# EAGLE library part XA-6P (library XA-Connectors)
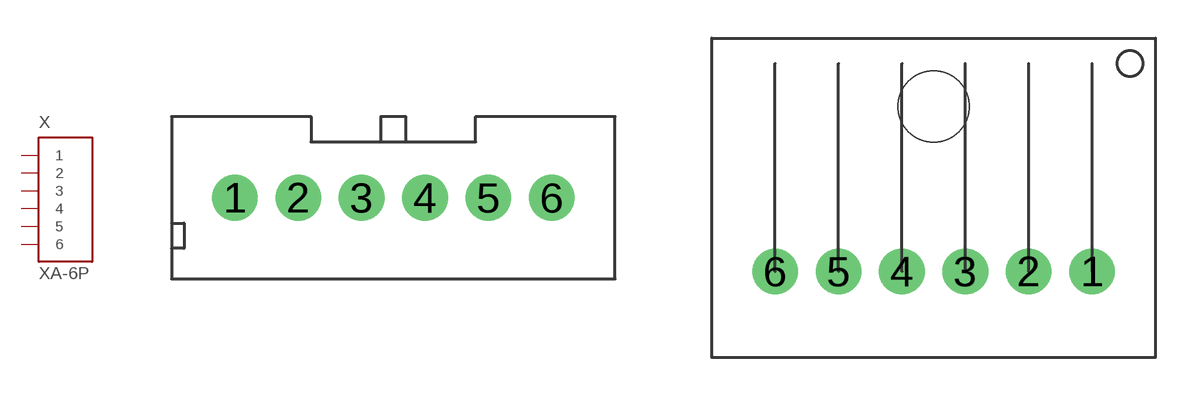
[diagram p0: symbol with the pads of XA-6P; footprints XA-6P, XA-6P-L]

Designator prefix X

## XA-6PNORMAL  [XA-6P]
1  1
2  2
3  3
4  4
5  5
6  6

## XA-6PL  [XA-6P-L]
Pads as for XA-6P

## Footprint XA-6P (pad centres in mm)
drill 0.9 pad 1.8: 1 -6.25,0; 2 -3.75,0; 3 -1.25,0; 4 1.25,0; 5 3.75,0; 6 6.25,0

## Footprint XA-6P-L (pad centres in mm)
drill 0.9 pad 1.8: 1 6.25,0; 2 3.75,0; 3 1.25,0; 4 -1.25,0; 5 -3.75,0; 6 -6.25,0
hole 2.8 at 0,6.5